# Altium footprint library Variable Resistor.PcbLib: 11 footprints
Each footprint in its own frame and in the unit in brackets; x right, y up, seen from the top. Pads: shape width x height; smd on the part's side, far side on the other; paste and mask are expansions set on the pad; w line width, h text height; cw(c..) or ccw(c..) is an arc to the next point about the centre after c.
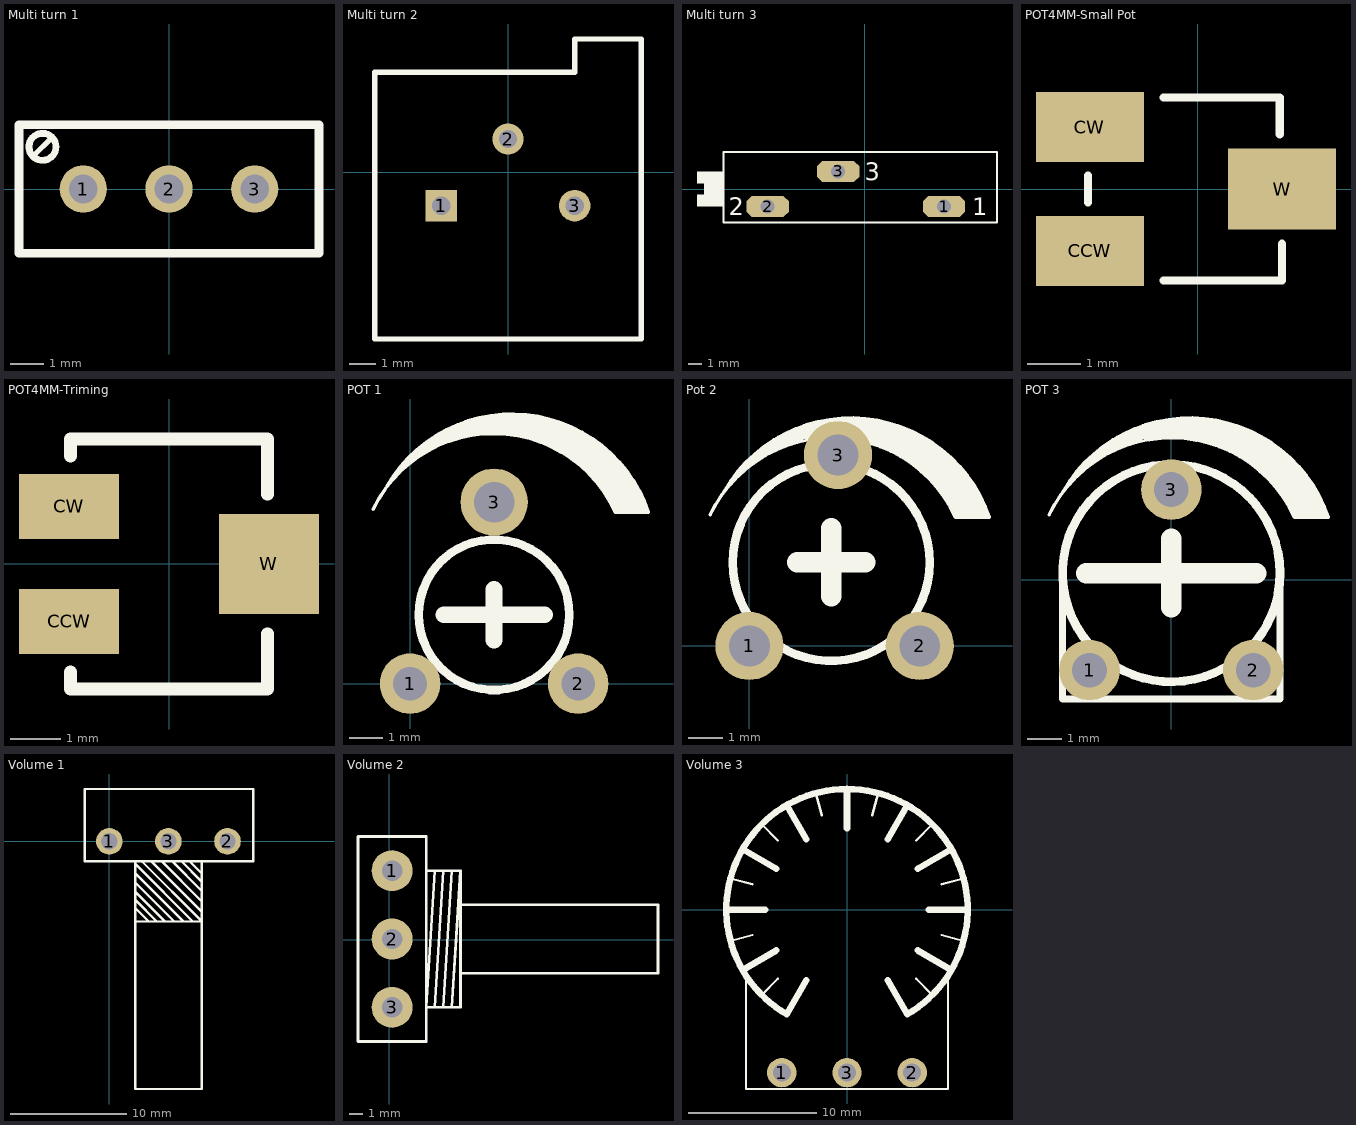
[diagram p0: the footprints below, top view; thin cyan lines are the x and y axes]

## Multi turn 1 [mm]
height 10
pads (3):
  round 1.4 hole 0.85: 1(-2.54,0) 2(0,0) 3(2.54,0)
Top Overlay:
  circle w0.203: c-3.75,1.25 r0.4
  lines w0.152: -4,1 -3.5,1.5
  lines w0.254: -4.445,-1.905 4.445,-1.905 4.445,1.905 -4.445,1.905 -4.445,-1.905
3D body "SW3dPS-Potenciometro Vertical.STEP": height 12.26, standoff -5.24, extent -4.6,-2.4 4.6,2.4

## Multi turn 2 [mm]
pads (3):
  rect 1.2x1.2 hole 0.7: 1(-2.54,-1.27)
  round 1.2 hole 0.7: 2(0,1.27) 3(2.54,-1.27)
Top Overlay:
  lines w0.2: -5.08,-6.35 5.08,-6.35 5.08,5.08 2.54,5.08 2.54,3.81 -5.08,3.81 -5.08,-6.35
3D body "User Library-3296P.STEP": height 4.9, standoff -2, extent -4.78,-6.486 4.75,5.064

## Multi turn 3 [mil]
pads (3):
  oct 120x60 hole 40: 1(225,-50) 2(-275,-50) 3(-75,50)
Top Overlay:
  rectangle: -475,-50 -400,-15
  rectangle: -475,15 -400,50
  rectangle: -455,-15 -400,15
  lines w6: -400,-95 375,-95 375,105 -400,105 -400,-95
  text "1" at 305,-75 h50
  text "3" at 0,25 h50
  text "2" at -385,-75 h50
3D body "SW3dPS-bourns_3006p.STEP": height 361.22, standoff -93.78, extent -464.99,-105 345.01,85

## POT4MM-Small Pot [mm] "Square Trimming Potentiometer"
pads (3):
  rect 2x1.3 smd: CCW(-2,-1.15) CW(-2,1.15)
  rect 2x1.5 smd: W(1.568,0)
Top Overlay:
  lines w0.15: -2.032,-0.254 -2.032,0.254 ; -0.635,-1.7 1.568,-1.7 1.568,-1.016 ; -0.635,1.7 1.524,1.7 1.524,1.016
3D body "TRIMMER_PVG3A.STEP": height 2, standoff 0, extent -2.032,-1.7 1.568,1.7

## POT4MM-Triming [mm] "Square Trimming Potentiometer"
pads (3):
  rect 2x1.3 smd: CCW(-2,-1.15) CW(-2,1.15)
  rect 2x2 smd: W(2,0)
Top Overlay:
  lines w0.254: -1.97,-2.159 -1.97,-2.5 1.97,-2.5 1.97,-1.397 ; -1.97,2.159 -1.97,2.5 1.97,2.5 1.97,1.397
3D body "SW3dPS-Pot 3214.STEP": height 5.4, standoff 0, extent -1.97,-2.4 1.97,2.4

## POT 1 [mm] "Trimmer"
height 6.25
pads (3):
  round 1.8 hole 1: 1(0,0) 2(5,0)
  round 2 hole 1.2: 3(2.5,5.4)
Top Overlay:
  circle w0.254: c2.5,2.05 r2.24
  lines w0.1: -1.101,5.178 cw(c2.481,3.467) 6.1,5.1 7.077,5.1 ; -0.685,5.875 cw(c3.027,3.733) 7.091,5.097 ; -0.269,6.4 0.001,6.647 ; -0.069,6.667 0.071,6.667 ; 0.001,6.737 0.191,6.737 ; 0.081,6.827 0.321,6.827 ; 0.171,6.917 0.471,6.917 ; 0.301,7.007 0.651,7.007 ; 0.391,7.097 0.851,7.097 ; 0.521,7.187 1.041,7.187 ; 0.611,7.267 1.311,7.267 ; 0.761,7.357 1.611,7.357 ; 0.891,7.447 5.129,7.447 ; 1.071,7.537 4.969,7.537 ; 1.231,7.617 4.799,7.627 ; 1.411,7.697 4.619,7.707 ; 1.641,7.787 4.399,7.787 ; 1.961,7.877 4.049,7.877 ; 2.311,7.937 3.719,7.937 ; 3.291,7.357 5.279,7.357 ; 3.641,7.267 5.419,7.267 ; 3.891,7.177 5.539,7.177 ; 4.131,7.087 5.659,7.087 ; 4.321,6.997 5.769,6.997 ; 4.621,6.817 5.959,6.817 ; 4.781,6.727 6.059,6.727 ; 5.021,6.547 6.199,6.547 ; 5.241,6.377 6.359,6.377 ; 5.411,6.187 6.449,6.187 ; 5.531,6.117 6.509,6.117 ; 5.571,6.047 6.549,6.047 ; 5.631,5.977 6.609,5.977 ; 5.691,5.897 6.669,5.897 ; 5.801,5.707 6.779,5.707 ; 5.871,5.617 6.849,5.617 ; 5.901,5.527 6.879,5.527 ; 5.951,5.437 6.929,5.437 ; 5.981,5.357 6.959,5.357 ; 6.031,5.267 7.009,5.267 ; 6.061,5.187 7.039,5.187
  lines w0.12: 4.481,6.907 5.889,6.907 ; 4.901,6.637 6.139,6.637 ; 5.161,6.467 6.279,6.467 ; 5.301,6.287 6.419,6.287
  lines w0.15: 5.741,5.807 6.719,5.807
  lines w0.5: 1,2.05 4,2.05 ; 2.5,1.3 2.5,2.8
3D body "User Library-RM-065.STEP": height 8.7, standoff -2.1, extent -0.76,-0.643 5.74,6.6

## Pot 2 [mm] "Trimmer"
height 7.5
pads (3):
  round 2 hole 1.2: 1(0,0) 2(5,0) 3(2.6,5.6)
Top Overlay:
  circle w0.254: c2.4,2.45 r2.89
  lines w0.1: -1.15,3.85 cw(c2.432,2.139) 6.051,3.772 7.028,3.772 ; -0.734,4.547 cw(c2.979,2.404) 7.042,3.769 ; -0.318,5.072 -0.048,5.319 ; -0.118,5.339 0.022,5.339 ; -0.048,5.409 0.142,5.409 ; 0.032,5.499 0.272,5.499 ; 0.122,5.589 0.422,5.589 ; 0.252,5.679 0.602,5.679 ; 0.342,5.769 0.802,5.769 ; 0.472,5.859 0.992,5.859 ; 0.562,5.939 1.262,5.939 ; 0.712,6.029 1.562,6.029 ; 0.842,6.119 5.08,6.119 ; 1.022,6.209 4.92,6.209 ; 1.182,6.289 4.75,6.299 ; 1.362,6.369 4.57,6.379 ; 1.592,6.459 4.35,6.459 ; 1.912,6.549 4,6.549 ; 2.262,6.609 3.67,6.609 ; 3.242,6.029 5.23,6.029 ; 3.592,5.939 5.37,5.939 ; 3.842,5.849 5.49,5.849 ; 4.082,5.759 5.61,5.759 ; 4.272,5.669 5.72,5.669 ; 4.572,5.489 5.91,5.489 ; 4.732,5.399 6.01,5.399 ; 4.972,5.219 6.15,5.219 ; 5.192,5.049 6.31,5.049 ; 5.362,4.859 6.4,4.859 ; 5.482,4.789 6.46,4.789 ; 5.522,4.719 6.5,4.719 ; 5.582,4.649 6.56,4.649 ; 5.642,4.569 6.62,4.569 ; 5.752,4.379 6.73,4.379 ; 5.822,4.289 6.8,4.289 ; 5.852,4.199 6.83,4.199 ; 5.902,4.109 6.88,4.109 ; 5.932,4.029 6.91,4.029 ; 5.982,3.939 6.96,3.939 ; 6.012,3.859 6.99,3.859
  lines w0.12: 4.432,5.579 5.84,5.579 ; 4.852,5.309 6.09,5.309 ; 5.112,5.139 6.23,5.139 ; 5.252,4.959 6.37,4.959
  lines w0.15: 5.692,4.479 6.67,4.479
  lines w0.6: 1.4,2.45 3.4,2.45 ; 2.4,1.45 2.4,3.45
3D body "User Library-Trimmer, 3306F-1.STEP": height 8.62, standoff -2.04, extent -0.91,-2.1 5.9,6.152

## POT 3 [mil] "Trimmer"
height 185.04
pads (3):
  round 70 hole 40: 1(-94.49,-104.33) 2(94.49,-104.33) 3(0,104.33)
Top Overlay:
  circle w10: c0,7.87 r125.59
  lines w3.94: -141.04,75.24 cw(c0,7.87) 142.47,72.16 180.95,72.15 ; -124.67,102.67 cw(c21.51,18.33) 181.5,72.05 ; -108.27,123.33 -97.64,133.07 ; -100.39,133.86 -94.88,133.86 ; -97.64,136.61 -90.16,136.61 ; -94.49,140.16 -85.04,140.16 ; -90.94,143.7 -79.13,143.7 ; -85.83,147.24 -72.05,147.24 ; -82.28,150.79 -64.17,150.79 ; -77.17,154.33 -56.69,154.33 ; -73.62,157.48 -46.06,157.48 ; -67.72,161.02 -34.25,161.02 ; -62.6,164.57 104.22,164.57 ; -55.51,168.11 97.93,168.11 ; -49.21,171.26 91.23,171.65 ; -42.13,174.41 84.15,174.8 ; -33.07,177.95 75.48,177.95 ; -20.47,181.5 61.7,181.5 ; -6.69,183.86 48.71,183.86 ; 31.89,161.02 110.13,161.02 ; 45.67,157.48 115.64,157.48 ; 55.51,153.94 120.37,153.94 ; 64.96,150.39 125.09,150.39 ; 72.44,146.85 129.42,146.85 ; 84.25,139.76 136.9,139.76 ; 90.55,136.22 140.84,136.22 ; 100,129.13 146.35,129.13 ; 108.66,122.44 152.65,122.44 ; 115.35,114.96 156.19,114.96 ; 120.08,112.2 158.56,112.2 ; 121.65,109.45 160.13,109.45 ; 124.02,106.69 162.49,106.69 ; 126.38,103.54 164.85,103.54 ; 130.71,96.06 169.19,96.06 ; 133.46,92.52 171.94,92.52 ; 134.65,88.98 173.12,88.98 ; 136.61,85.43 175.09,85.43 ; 137.8,82.28 176.27,82.28 ; 139.76,78.74 178.24,78.74 ; 140.94,75.59 179.42,75.59
  lines w4.72: 78.74,143.31 134.15,143.31 ; 95.28,132.68 143.99,132.68 ; 105.51,125.98 149.5,125.98 ; 111.02,118.9 155.01,118.9
  lines w5.91: 128.35,100 166.82,100
  lines w7.87: -125.59,15.75 -125.59,-137.8 125.59,-137.8 125.59,15.75
  lines w23.62: -98.43,7.87 98.43,7.87 ; 0,-31.5 0,47.24
3D body "pot.STEP": height 187.01, standoff -59.06, extent -124.8,-144.09 127.1,145.24

## Volume 1 [mil] "Voloume"
pads (3):
  round 90 hole 55: 1(0,0) 2(400,0) 3(200,0)
Top Overlay:
  lines w7.87: -83.46,177.17 -83.46,-66.93 487.4,-66.93 487.4,177.17 -79.53,177.17 ; 88.19,-271.65 312.6,-271.65 ; 89.76,-228.35 133.07,-271.65 ; 89.76,-200.79 160.63,-271.65 ; 89.76,-173.23 188.19,-271.65 ; 89.76,-141.73 219.69,-271.65 ; 89.76,-110.24 251.18,-271.65 ; 89.76,-78.74 280.71,-269.68 ; 111.42,-68.9 310.24,-267.72 ; 140.94,-66.93 310.24,-236.22 ; 176.38,-66.93 312.2,-202.76 ; 211.81,-66.93 310.24,-165.35 ; 243.31,-66.93 312.2,-135.83 ; 270.87,-66.93 310.24,-106.3 ; 88.19,-838.58 312.6,-838.58 312.6,-66.93 88.19,-66.93 88.19,-838.58
3D body "POT.STEP": height 39.37, standoff -929.98, extent -108.82,-812.91 511.18,193.31
3D body "volome cover2.STEP": height 926.22, standoff 252.56, extent -100.98,-1131.89 496.26,-344.49

## Volume 2 [mil]
height 20
pads (3):
  round 120 hole 60: 1(8.64,202.08) 2(8.64,2.08) 3(8.64,-197.92)
Top Overlay:
  lines w8: 108.64,202.08 208.64,202.08 ; 133.64,-197.92 158.64,202.08 ; 133.64,202.08 108.64,-197.92 208.64,-197.92 208.64,202.08 ; 158.64,-197.92 183.64,202.08 ; 183.64,-197.92 208.64,202.08 ; 208.64,-97.92 787.4,-97.92 787.4,102.08 208.64,102.08 ; -91.36,-297.92 108.64,-297.92 108.64,302.08 -91.36,302.08 -91.36,-297.92
3D body "SW3dPS-Pot.STEP": height 811.87, standoff -157.48, extent -188.15,-305.04 818.07,314.96

## Volume 3 [mil] "Volume Right"
pads (3):
  round 90 hole 55: 1(-200,-500) 2(200,-500) 3(0,-500)
Top Overlay:
  lines w7: -357.39,-95.76 -289.78,-77.65 ; -357.39,95.76 -289.78,77.65 ; -310,-200 -310,-550 310,-550 310,-200 ; -261.63,-261.63 -212.13,-212.13 ; -261.63,261.63 -212.13,212.13 ; -95.76,357.39 -77.65,289.78 ; 77.65,289.78 95.76,357.39 ; 212.13,-212.13 261.63,-261.63 ; 212.13,212.13 261.63,261.63 ; 289.78,-77.65 357.39,-95.76 ; 289.78,77.65 357.39,95.76
  lines w20: -370,0 -250,0 ; -320.43,-185 -216.51,-125 ; -320.43,185 -216.51,125 ; -185,320.43 -125,216.51 ; -125,-216.51 -185,-320.43 cw(c0,0) 185,-320.43 125,-216.51 ; 0,250 0,370 ; 125,216.51 185,320.43 ; 216.51,-125 320.43,-185 ; 216.51,125 320.43,185 ; 250,0 370,0
3D body "User Library-R16K6.step": height 1574.8, standoff -59.06, extent -334.65,-511.81 334.65,334.65